# Altium footprint library TO-3P-5L.PcbLib: 1 footprints
Each footprint in its own frame and in the unit in brackets; x right, y up, seen from the top. Pads: shape width x height; smd on the part's side, far side on the other; paste and mask are expansions set on the pad; w line width, h text height; cw(c..) or ccw(c..) is an arc to the next point about the centre after c.
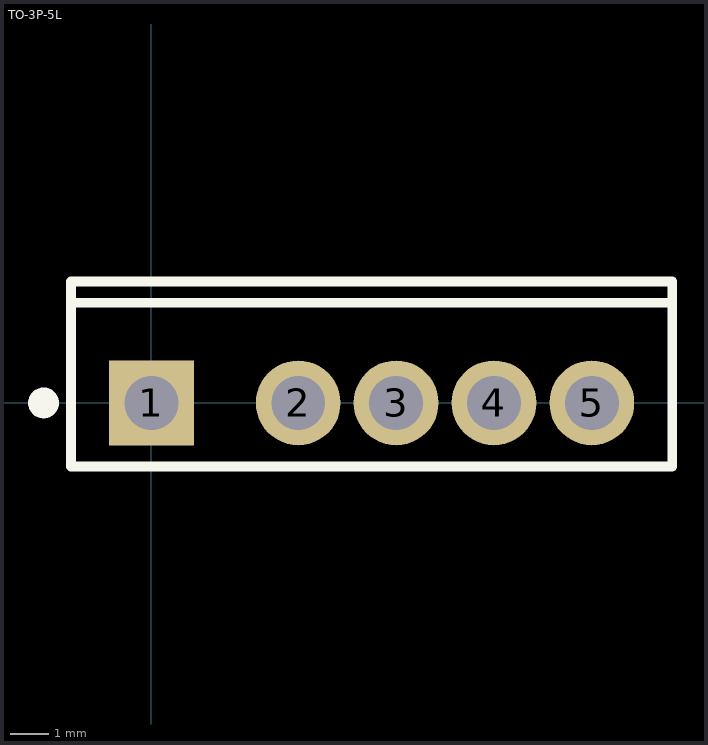
[diagram p0: the footprint, top view; thin cyan lines are the x and y axes]

## TO-3P-5L [mm]
pads (5):
  rect 2.2x2.2 hole 1.4: 1(0,0)
  round 2.2 hole 1.4: 2(3.81,0) 3(6.35,0) 4(8.89,0) 5(11.43,0)
Top Overlay:
  circle w0.4: c-2.8,0 r0.2
  lines w0.254: -2.085,2.6 13.515,2.6 ; -2.085,-1.65 13.515,-1.65 13.515,3.15 -2.085,3.15 -2.085,-1.65